# Altium footprint library SnapEDApcb.PcbLib: 1 footprints
Each footprint in its own frame and in the unit in brackets; x right, y up, seen from the top. Pads: shape width x height; smd on the part's side, far side on the other; paste and mask are expansions set on the pad; w line width, h text height; cw(c..) or ccw(c..) is an arc to the next point about the centre after c.
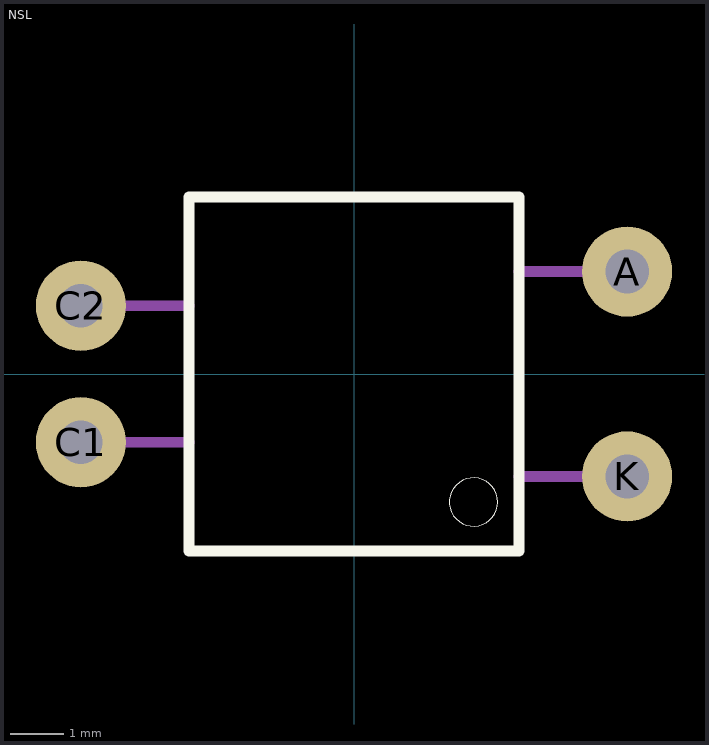
[diagram p0: the footprint, top view; thin cyan lines are the x and y axes]

## NSL [mil]
pads (4):
  round 66 hole 32: A(200,75) C1(-200,-50) C2(-200,50) K(200,-75)
Top Overlay:
  circle w0: c87.5,-93.75 r17.68
  lines w8: -120.96,-129.53 -120.96,129.53 120.96,129.53 120.96,-129.53 -120.96,-129.53
Mechanical 13:
  lines w8: -200,-50 -120.96,-50 ; -200,50 -120.96,50 ; 120.96,-75 200,-75 ; 120.96,75 200,75
  text "CELL" at -54.59,-68.82 h40.04
  text "+" at 69.71,12.51 h50.02
  text "-" at 69.69,-75.01 h50.01